# Altium schematic symbol library MCP1415.SchLib: 1 symbol
Pins are listed as number, name and electrical type; pins without a type are passive.

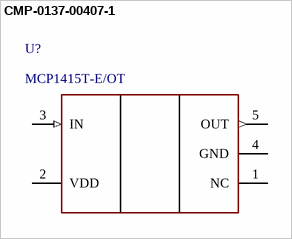
[diagram p0: symbol CMP-0137-00407-1]

## CMP-0137-00407-1
designator U?, comment MCP1415T-E/OT
Tiny 1.5A, High-Speed Power MOSFET Driver, Inverting, Extended Temperature, Tape and Reel; PackageVersion: revBB, Aug-2009; PackageReference: SOT-23-OT5; DatasheetVersion: revC, Dec-2008; Code_IPC: SOT23-5; PackageDescription: 5-Lead Plastic Small Outline Transistor (OT) [SOT-23]
footprint SOT-23-OT5_L (SOT23, 5-Leads, Body 2.9x1.7mm, Pitch 0.95mm, Lead Span 2.8mm, IPC High Density)
pins: 1 NC, 2 VDD, 3 IN (in), 4 GND, 5 OUT (out)